# Altium schematic symbol library MCU_ST_STM32C5.SchLib: 2 symbols
Pins are listed as number, name and electrical type; pins without a type are passive.

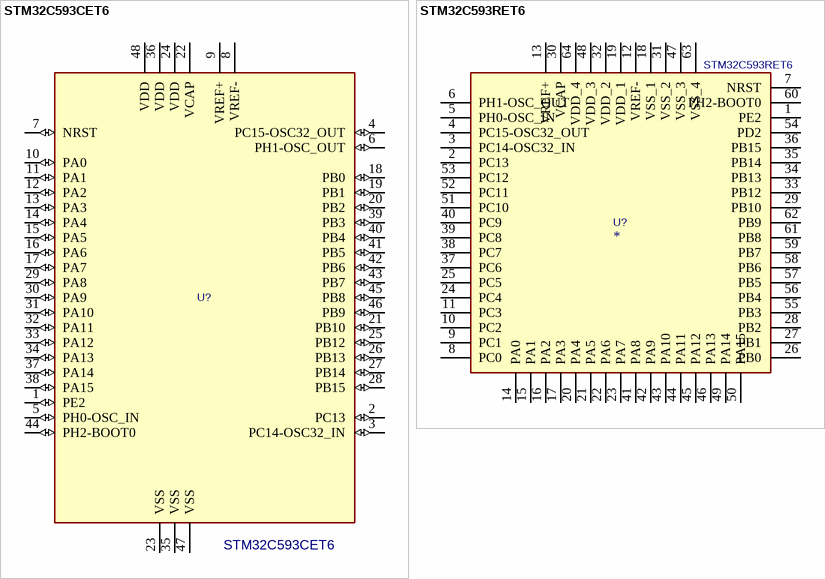
[diagram p0: symbols STM32C593CET6 to STM32C593RET6]

## STM32C593CET6
designator U?  value STM32C593CET6  (hidden comment: *)
Mainstream Arm Cortex-M33 MCU, 144 MHz, 512 KB flash, 256 KB RAM, I3C, Dual FDCAN; Manufacturer: STMicroelectronics; ki_fp_filters: LQFP48_STM LQFP48_STM-M LQFP48_STM-L; Reference: U?; Datasheet: https://www.st.com/resource/en/datasheet/stm32c591zg.pdf; Description_: Mainstream Arm Cortex-M33 MCU, 144 MHz, 512 KB flash, 256 KB RAM, I3C, Dual FDCAN; ki_keywords: STM32C593CET6; Category: Microcontrollers; Manufacturer Part Number: STM32C593CET6; Supplier 1: Arrow Electronics; Supplier Part Number 1: STM32C593CET6; Supplier Unit Price 1: $1.59; Supplier Location 1: US
footprint LQFP-48_7x7mm_P0.5mm
pins: 1 PE2 (io), 2 PC13 (io), 3 PC14-OSC32_IN (io), 4 PC15-OSC32_OUT (io), 5 PH0-OSC_IN (io), 6 PH1-OSC_OUT (io), 7 NRST (io), 8 VREF- (power), 9 VREF+ (power), 10 PA0 (io), 11 PA1 (io), 12 PA2 (io), 13 PA3 (io), 14 PA4 (io), 15 PA5 (io), 16 PA6 (io), 17 PA7 (io), 18 PB0 (io), 19 PB1 (io), 20 PB2 (io), 21 PB10 (io), 22 VCAP (power), 23 VSS (power), 24 VDD (power), 25 PB12 (io), 26 PB13 (io), 27 PB14 (io), 28 PB15 (io), 29 PA8 (io), 30 PA9 (io), 31 PA10 (io), 32 PA11 (io), 33 PA12 (io), 34 PA13 (io), 35 VSS (power), 36 VDD (power), 37 PA14 (io), 38 PA15 (io), 39 PB3 (io), 40 PB4 (io), 41 PB5 (io), 42 PB6 (io), 43 PB7 (io), 44 PH2-BOOT0 (io), 45 PB8 (io), 46 PB9 (io), 47 VSS (power), 48 VDD (power)

## STM32C593RET6
designator U?  value STM32C593RET6
Manufacturer_Name: STMicroelectronics; ki_description: Arm? Cortex?-M33 32-bit MCU with FPU, at 144 MHz, 593 CoreMark?, up to 1 Mbyte flash memory, 256-Kbyte RAM, I3C; Reference: U; Footprint: QFP50P1200X1200X160-64N; Datasheet: https://www.st.com/resource/en/datasheet/stm32c591zg.pdf; Height: 1.6; Manufacturer_Part_Number: STM32C593RET6; Category: Microcontrollers; Export Control Classification Number (ECCN) Code: 3A991.A.2; Harmonized Tariff Schedule (HTS) Code: 8542.31.00.30; Introduction Date: 2026-05-14; Lifecycle Status: Production; Manufacturer: STMicroelectronics; Manufacturer Part Number: STM32C593RET6; Supplier 1: Mouser; Supplier Part Number 1: 511-STM32C593RET6; Supplier Packaging 1: Tray; Supplier Unit Price 1: $4.19; Supplier Location 1: US
footprint LQFP-64_10x10mm_P0.5mm
pins: 1 PE2, 2 PC13, 3 PC14-OSC32_IN, 4 PC15-OSC32_OUT, 5 PH0-OSC_IN, 6 PH1-OSC_OUT, 7 NRST, 8 PC0, 9 PC1, 10 PC2, 11 PC3, 12 VREF-, 13 VREF+, 14 PA0, 15 PA1, 16 PA2, 17 PA3, 18 VSS_1, 19 VDD_1, 20 PA4, 21 PA5, 22 PA6, 23 PA7, 24 PC4, 25 PC5, 26 PB0, 27 PB1, 28 PB2, 29 PB10, 30 VCAP, 31 VSS_2, 32 VDD_2, 33 PB12, 34 PB13, 35 PB14, 36 PB15, 37 PC6, 38 PC7, 39 PC8, 40 PC9, 41 PA8, 42 PA9, 43 PA10, 44 PA11, 45 PA12, 46 PA13, 47 VSS_3, 48 VDD_3, 49 PA14, 50 PA15, 51 PC10, 52 PC11, 53 PC12, 54 PD2, 55 PB3, 56 PB4, 57 PB5, 58 PB6, 59 PB7, 60 PH2-BOOT0, 61 PB8, 62 PB9, 63 VSS_4, 64 VDD_4